# EAGLE library part 9DOF (library satellite)
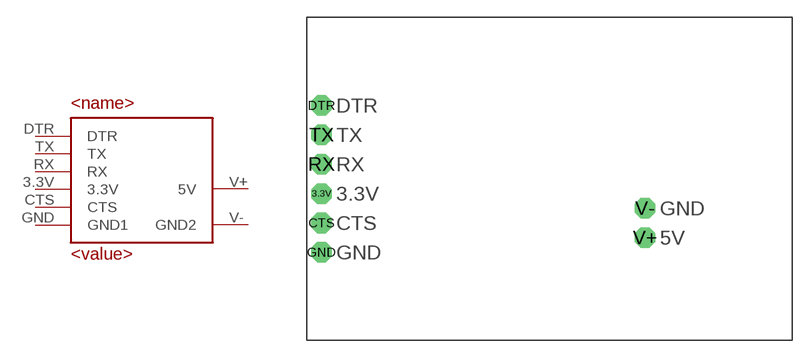
[diagram p0: symbol with the pads of 9DOF; footprint 9DOF]

Designator prefix U

## 9DOF  [9DOF]
3.3V  3.3V
CTS  CTS
DTR  DTR
GND  GND1
RX  RX
TX  TX
V+  5V
V-  GND2

## Footprint 9DOF (pad centres in mm)
drill 0.8 pad 1.778 octagon: 3.3V 1.27,12.7; CTS 1.27,10.16; DTR 1.27,20.32; GND 1.27,7.62; RX 1.27,15.24; TX 1.27,17.78; V+ 29.21,8.89; V- 29.21,11.43